# Altium schematic symbol library TMDX654GPEVM.SCHLIB: 339 symbols (part 5 of 6)
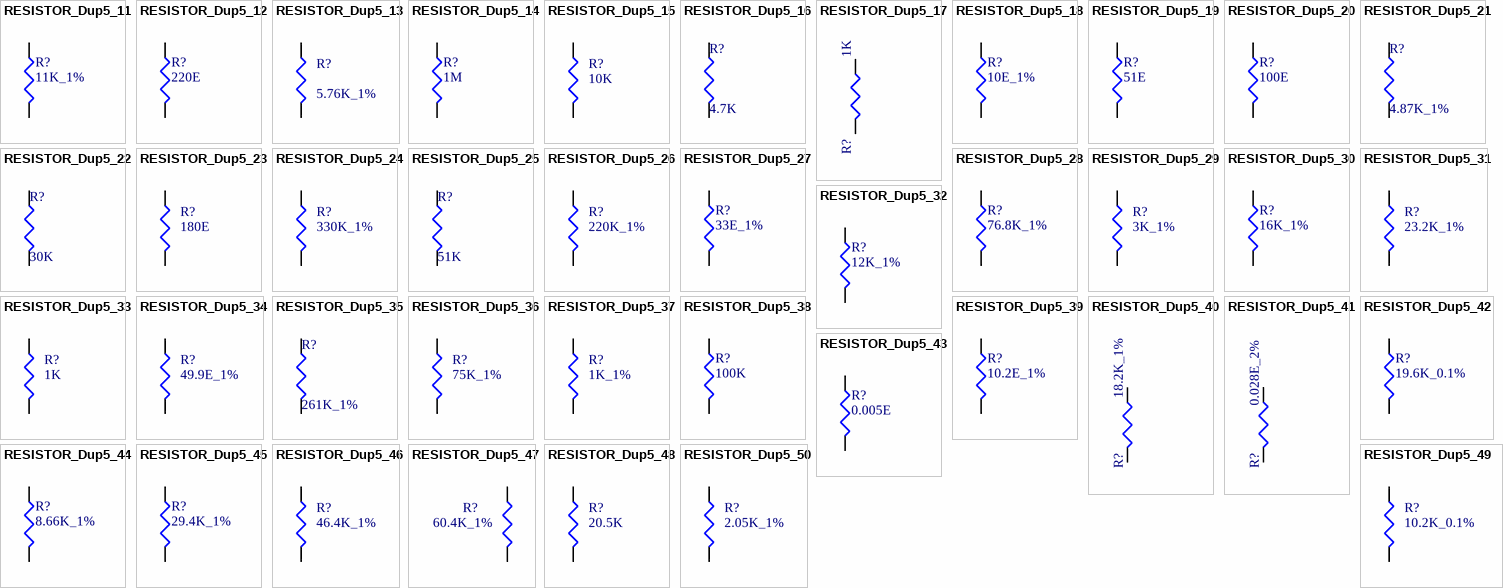
[diagram p24: symbols RESISTOR_Dup5_11 to RESISTOR_Dup5_50]

## RESISTOR_Dup5_36
designator R?, comment 75K_1%
RES 75K 1/10W 1% 0402; Part_type: RESISTORS\FIXED; Mfr_part_number: ERJ-2RKF7502X; Mfr_name: PANASONIC-ECG; Mistral Part No: 110009031116-R; MECHANICAL 3D STEP FILE: RES0402_0-5; Voltage: NA; Custom_Duty: 15%; Customs_HS_Code: 85332119; Project: G4_SVGA; Footprint Path: Y:\MIS_DATABASE\Library\ALTIUM_TOOL\PCB_FOOTPRINTS\Altium_Footprint_Lib.PcbLib; Library Path: Y:\MIS_DATABASE\Library\ALTIUM_TOOL\SCHEMATICS_PARTS\MS_DISCRETE_Library.schlib; Temperature: -55°C+155°C; Weight: 0.8mg; PCB Footprint: RES0402_0-5; Chkd/date: MANIRAJA/040418; Crtd /date: MAZHAR/120505; Datasheet: Y:\MIS_DATABASE\DATASHEETS\RESISTORS\PAN-ERJSERIES.PDF; Height: 0.40MM; Distributor_part_number: P75.0KLCT-ND; Distributor_name: DIGIKEY; Package: 0402; Wattage: 1/10W; Tolerance: 1%; Library Ref: RESISTOR; Footprint Ref: RES0402_0-5
footprint RES0402_0-5
pins: 1, 2

## RESISTOR_Dup5_37
designator R?, comment 1K_1%
RES 1K 1/10W 1% 0402; Mistral Part No: 110009030411-R; Mfr_name: PANASONIC-ECG; Mfr_part_number: ERJ-2RKF1001X; Part_type: RESISTORS\FIXED; Cust_part_number: 4700-80039E; PCB Footprint: RES0402_0-5; Project: VOCERA; Voltage: NA; Customs_HS_Code: 85332119; Custom_Duty: 15%; Tolerance: 1%; Wattage: 1/10W; Package: 0402; Distributor_name: DIGIKEY; Distributor_part_number: P1.00KLCT-ND; Height: 0.40MM; Weight: 0.8g/1000pcs; Temperature: -55°C+125°C; Datasheet: Y:\MIS_DATABASE\DATASHEETS\RESISTORS\ERJ-2R.PDF; Crtd /date: MAZHAR/150506; Chkd/date: VASANTHA/281216; MECHANICAL 3D STEP FILE: RES0402_0-5; Library Path: Y:\MIS_DATABASE\Library\ALTIUM_TOOL\SCHEMATICS_PARTS\MS_DISCRETE_Library.schlib; Footprint Path: Y:\MIS_DATABASE\Library\ALTIUM_TOOL\PCB_FOOTPRINTS\Altium_Footprint_Lib.PcbLib; Library Ref: RESISTOR; Footprint Ref: RES0402_0-5
footprint RES0402_0-5
pins: 1, 2

## RESISTOR_Dup5_38
designator R?, comment 100K
RES 100K 1/16W 5% 0402; Mistral Part No: 110011060002-R; Mfr_name: VISHAY; Mfr_part_number: CRCW0402100KJNED; Part_type: RESISTORS\FIXED; PCB Footprint: RES0402_0-5; Project: AM4515_EVM_LCD; Voltage: NA; Customs_HS_Code: 85332119; Custom_Duty: 15%; Tolerance: 5%; Wattage: 1/16W; Package: 0402; Distributor_name: DIGIKEY; Distributor_part_number: 541-100KJCT-ND; Height: 0.40MM; Weight: 0.65mg; Temperature: -55°C+155°C; Datasheet: Y:\MIS_DATABASE\DATASHEETS\RESISTORS\CRCW0603.PDF; Crtd /date: BAVISH/010611; Chkd/date: VASANTHA/061216; MECHANICAL 3D STEP FILE: RES0402_0-5; Library Ref: RESISTOR
footprint RES0402_0-5
pins: 1, 2

## RESISTOR_Dup5_39
designator R?, comment 10.2E_1%
RES 10.2E 1/16W 1% 0402; Part_type: RESISTORS\FIXED; Mfr_part_number: CRCW040210R2FKED; Mfr_name: VISHAY; Mistral Part No: 110017080001-R; PCB Footprint: RES0402_0-5; Custom_Duty: 15%; Customs_HS_Code: 85332119; Voltage: NA; Project: TI_SVB_DUT; MECHANICAL 3D STEP FILE: RES0402_0-5; Chkd/date: MANIRAJA/030817; Crtd /date: MANIRAJA/030817; Datasheet: Y:\MIS_DATABASE\DATASHEETS\RESISTORS\CRCW0603.PDF; Temperature: -55°C+155°C; Weight: 0.65mg; Height: 0.40MM; Distributor_part_number: 541-10.2LCT-ND; Distributor_name: DIGIKEY; Package: 0402; Wattage: 1/16W; Tolerance: 1%; Library Ref: RESISTOR
footprint RES0402_0-5
pins: 1, 2

## RESISTOR_Dup5_40
designator R?, comment 18.2K_1%
RES 18.2K 1/16W 1% 0402; Mistral Part No: 110009031211-R; Mfr_name: PANASONIC-ECG; Mfr_part_number: ERJ-2RKF1822X; Part_type: RESISTORS\FIXED; PCB Footprint: RES0402; Project: AXON; Customs_HS_Code: 85332119; Custom_Duty: 15%; Tolerance: 1%; Wattage: 1/16W; Package: 0402; Distributor_name: DIGIKEY; Distributor_part_number: P18.2KLCT-ND; Height: 0.40MM; Datasheet: Y:\MIS_DATABASE\DATASHEETS\RESISTORS\PAN-ERJSERIES.PDF; Crtd /date: USMAN/130309; Chkd/date: MAZHAR/150709; Library Ref: RESISTOR
footprint RES0402
pins: 1, 2

## RESISTOR_Dup5_41
designator R?, comment 0.028E_2%
RES 0.028E 1W 2% 1508; Mistral Part No: 110017090012-R; Mfr_name: SUSUMU; Mfr_part_number: RL3720WT-R028-G; Part_type: RESISTORS\FIXED; PCB Footprint: RES0815_0-75; Project: TI_MAXIE_CPB; Voltage: NA; Customs_HS_Code: 85332119; Custom_Duty: 15%; Tolerance: 2%; Wattage: 1W; Package: 1508; Distributor_name: DIGIKEY; Distributor_part_number: 408-1717-1-ND; Height: 0.70MM; Weight: NA; Temperature: -55°C+125°C; Datasheet: Y:\MIS_DATABASE\DATASHEETS\RESISTORS\RL3720W-SER.PDF; Crtd /date: MANIRAJA/280917; Chkd/date: MANIRAJA/280917; MECHANICAL 3D STEP FILE: RES0815_0-75; Library Ref: RESISTOR
footprint RES0815_0-75
pins: 1, 2

## RESISTOR_Dup5_42
designator R?, comment 19.6K_0.1%
RES 19.6K 1/16W 0.1% 0402; Mistral Part No: 110011100020-R; Mfr_name: VISHAY; Mfr_part_number: TNPW040219K6BEED; Part_type: RESISTORS\FIXED; PCB Footprint: RES0402; Project: VP-4000-PROCESSOR; Voltage: NA; Customs_HS_Code: 85332119; Custom_Duty: 15%; Tolerance: 0.1%; Wattage: 1/16W; Package: 0402; Distributor_name: DIGIKEY; Distributor_part_number: TNP19.6KDACT-ND; Height: 0.40MM; Weight: 0.65/1000g; Temperature: -55°C+125°C; Datasheet: Y:\MIS_DATABASE\DATASHEETS\RESISTORS\VISHAY_TNPW.PDF; Crtd /date: CHAITHANYA/121011; Chkd/date: BAVISH/131011; Library Ref: RESISTOR
footprint RES0402
pins: 1, 2

## RESISTOR_Dup5_43
designator R?, comment 0.005E
RES 0.005E 1/2W 1% 1206; Mistral Part No: 110009030043-P; Mfr_name: VISHAY; Mfr_part_number: WSL12065L000FEA18; Part_type: RESISTORS\FIXED; PCB Footprint: RES1206; Project: MDI; Customs_HS_Code: 85332119; Custom_Duty: 15%; Tolerance: 1%; Wattage: 1/2W; Package: 1206; Distributor_name: DIGIKEY; Distributor_part_number: WSLD-.005CT-ND; Height: 0.89MM; Weight: 16.2g/1000pcs; Temperature: -65°C+170°C; Datasheet: Y:\MIS_DATABASE\DATASHEETS\RESISTORS\WSL-SERIES.PDF; Crtd /date: USMAN/190908; Chkd/date: SUHAS/290910; RoHS: Pb-Free; Library Ref: RESISTOR
footprint RES1206
pins: 1, 2

## RESISTOR_Dup5_44
designator R?, comment 8.66K_1%
RES 8.66K 1/10W 1% 0402; Mistral Part No: 110012090010-R; Mfr_name: PANASONIC; Mfr_part_number: ERJ-2RKF8661X; Part_type: RESISTORS\FIXED; PCB Footprint: RES0402; Project: ICP; Voltage: NA; Customs_HS_Code: 85332119; Custom_Duty: 15%; Tolerance: 1%; Wattage: 1/10W; Package: 0402; Distributor_name: DIGIKEY; Distributor_part_number: P8.66KLCT-ND; Height: 0.40MM; Weight: 0.8/1000g; Temperature: -55°C+155°C; Datasheet: Y:\MIS_DATABASE\DATASHEETS\RESISTORS\ERJ-2R.PDF; Crtd /date: CHAITHANYA/260912; Chkd/date: JEBRAN/260315; Library Ref: RESISTOR
footprint RES0402
pins: 1, 2

## RESISTOR_Dup5_45
designator R?, comment 29.4K_1%
RES 29.4K 1/16W 1% 0402; Part_type: RESISTORS\FIXED; Mfr_part_number: ERJ-2RKF2942X; Mfr_name: PANASONIC-ECG; Mistral Part No: 110009030592-R; PCB Footprint: RES0402; Custom_Duty: 15%; Customs_HS_Code: 85332119; Project: CTP02_REVA_BASE; Chkd/date: SHREESHAIL/121205; Crtd /date: MAZHAR/120505; Datasheet: Y:\MIS_DATABASE\DATASHEETS\RESISTORS\PAN_ERJ.PDF; Height: 0.40MM; Distributor_part_number: P29.4KLTR-ND; Distributor_name: DIGIKEY; Package: 0402; Wattage: 1/16W; Tolerance: 1%; Library Ref: RESISTOR
footprint RES0402
pins: 1, 2

## RESISTOR_Dup5_46
designator R?, comment 46.4K_1%
RES 46.4K 1/16W 1% 0402; Part_type: RESISTORS\FIXED; Mfr_part_number: CRCW040246K4FKED; Mfr_name: VISHAY; Mistral Part No: 110013020001-R; PCB Footprint: RES0402; Custom_Duty: 15%; Customs_HS_Code: 85332119; Voltage: NA; Project: ITS-SCP; Chkd/date: USMAN/230413; Crtd /date: USMAN/180213; Datasheet: Y:\MIS_DATABASE\DATASHEETS\RESISTORS\CRCW0603.PDF; Temperature: -55°C+155°C; Weight: 0.65mg; Height: 0.40MM; Distributor_part_number: 541-46.4KLCT-ND; Distributor_name: DIGIKEY; Package: 0402; Wattage: 1/16W; Tolerance: 1%; Library Ref: RESISTOR; Footprint Ref: RES0402; Library Path: Y:\MIS_DATABASE\Library\ALTIUM_TOOL\SCHEMATICS_PARTS\MS_DISCRETE_Library.schlib; Footprint Path: Y:\MIS_DATABASE\Library\ALTIUM_TOOL\PCB_FOOTPRINTS\Altium_Footprint_Lib.PcbLib
footprint RES0402
pins: 1, 2

## RESISTOR_Dup5_47
designator R?, comment 60.4K_1%
RES 60.4K 1/16W 1% 0402; Mistral Part No: 110012110012-R; Mfr_name: YAGEO AMERICA; Mfr_part_number: RC0402FR-0760K4L; Part_type: RESISTORS\FIXED; Cust_part_number: 4700-80042E; Project: ITS-CONTROLER_CARD; Voltage: NA; Customs_HS_Code: 85332119; Custom_Duty: 15%; MECHANICAL 3D STEP FILE: RES0402_0-5; Tolerance: 1%; Wattage: 1/16W; Package: 0402; Distributor_name: DIGIKEY; Distributor_part_number: 311-60.4KLRCT-ND; Height: 0.40MM; Weight: 0.65mg; Temperature: -55°C+155°C; Datasheet: Y:\MIS_DATABASE\DATASHEETS\RESISTORS\YAGEO-RC0402.PDF; Crtd /date: USMAN/201112; Chkd/date: VASANTHA/281216; PCB Footprint: RES0402_0-5; Library Ref: RESISTOR
footprint RES0402_0-5
pins: 1, 2

## RESISTOR_Dup5_48
designator R?, comment 20.5K
RES 20.5K 1/10W 1% 0402; Mistral Part No: 110010090063-R; Mfr_name: PANASONIC-ECG; Mfr_part_number: ERJ-2RKF2052X; Part_type: RESISTORS\FIXED; Project: ITS; Customs_HS_Code: 85332119; Custom_Duty: 15%; PCB Footprint: RES0402; Tolerance: 1%; Wattage: 1/10W; Package: 0402; Distributor_name: DIGIKEY; Distributor_part_number: P20.5KLCT-ND; Height: 0.40MM; Weight: 0.8/1000g; Temperature: -55°C+125°C; Datasheet: Y:\MIS_DATABASE\DATASHEETS\RESISTORS\ERJ2R.PDF; Crtd /date: BAVISH/290910; Chkd/date: MAZHAR/0141010; Library Ref: RESISTOR; Footprint Ref: RES0402; Library Path: Y:\MIS_DATABASE\Library\ALTIUM_TOOL\SCHEMATICS_PARTS\MS_DISCRETE_Library.schlib; Footprint Path: Y:\MIS_DATABASE\Library\ALTIUM_TOOL\PCB_FOOTPRINTS\Altium_Footprint_Lib.PcbLib
footprint RES0402
pins: 1, 2

## RESISTOR_Dup5_49
designator R?, comment 10.2K_0.1%
RES 10.2K 1/16W 0.1% 0402; Mistral Part No: 110011050017-R; Mfr_name: VISHAY; Mfr_part_number: TNPW040210K2BEED; Part_type: RESISTORS\FIXED; Project: HMC; Voltage: NA; Customs_HS_Code: 85332119; Custom_Duty: 15%; PCB Footprint: RES0402; Tolerance: 0.1%; Wattage: 1/16W; Package: 0402; Distributor_name: DIGIKEY; Distributor_part_number: TNP10.2KDACT-ND; Height: 0.40MM; Weight: 0.65/1000g; Temperature: -55°C+125°C; Datasheet: Y:\MIS_DATABASE\DATASHEETS\RESISTORS\VISHAY_TNPW.PDF; Crtd /date: BAVISH/240511; Chkd/date: MAZHAR/200611; Library Ref: RESISTOR
footprint RES0402
pins: 1, 2

## RESISTOR_Dup5_50
designator R?, comment 2.05K_1%
RES 2.05K 1/10W 1% 0402; Part_type: RESISTORS\FIXED; Mfr_part_number: ERJ-2RKF2051X; Mfr_name: PANASONIC; Mistral Part No: 110014110019-R; Custom_Duty: 15%; Customs_HS_Code: 85332119; Voltage: NA; Project: ZK BIOMETRIC; PCB Footprint: RES0402; Library Ref: RESISTOR; Chkd/date: NAVEED/261214; Crtd /date: JEBRAN/271114; Datasheet: Y:\MIS_DATABASE\DATASHEETS\RESISTORS\ERJ-2R.PDF; Temperature: -55°C+125°C; Weight: NA; Height: 0.40MM; Distributor_part_number: P2.05KLCT-ND; Distributor_name: DIGIKEY; Package: 0402; Wattage: 1/10W; Tolerance: 1%
footprint RES0402
pins: 1, 2

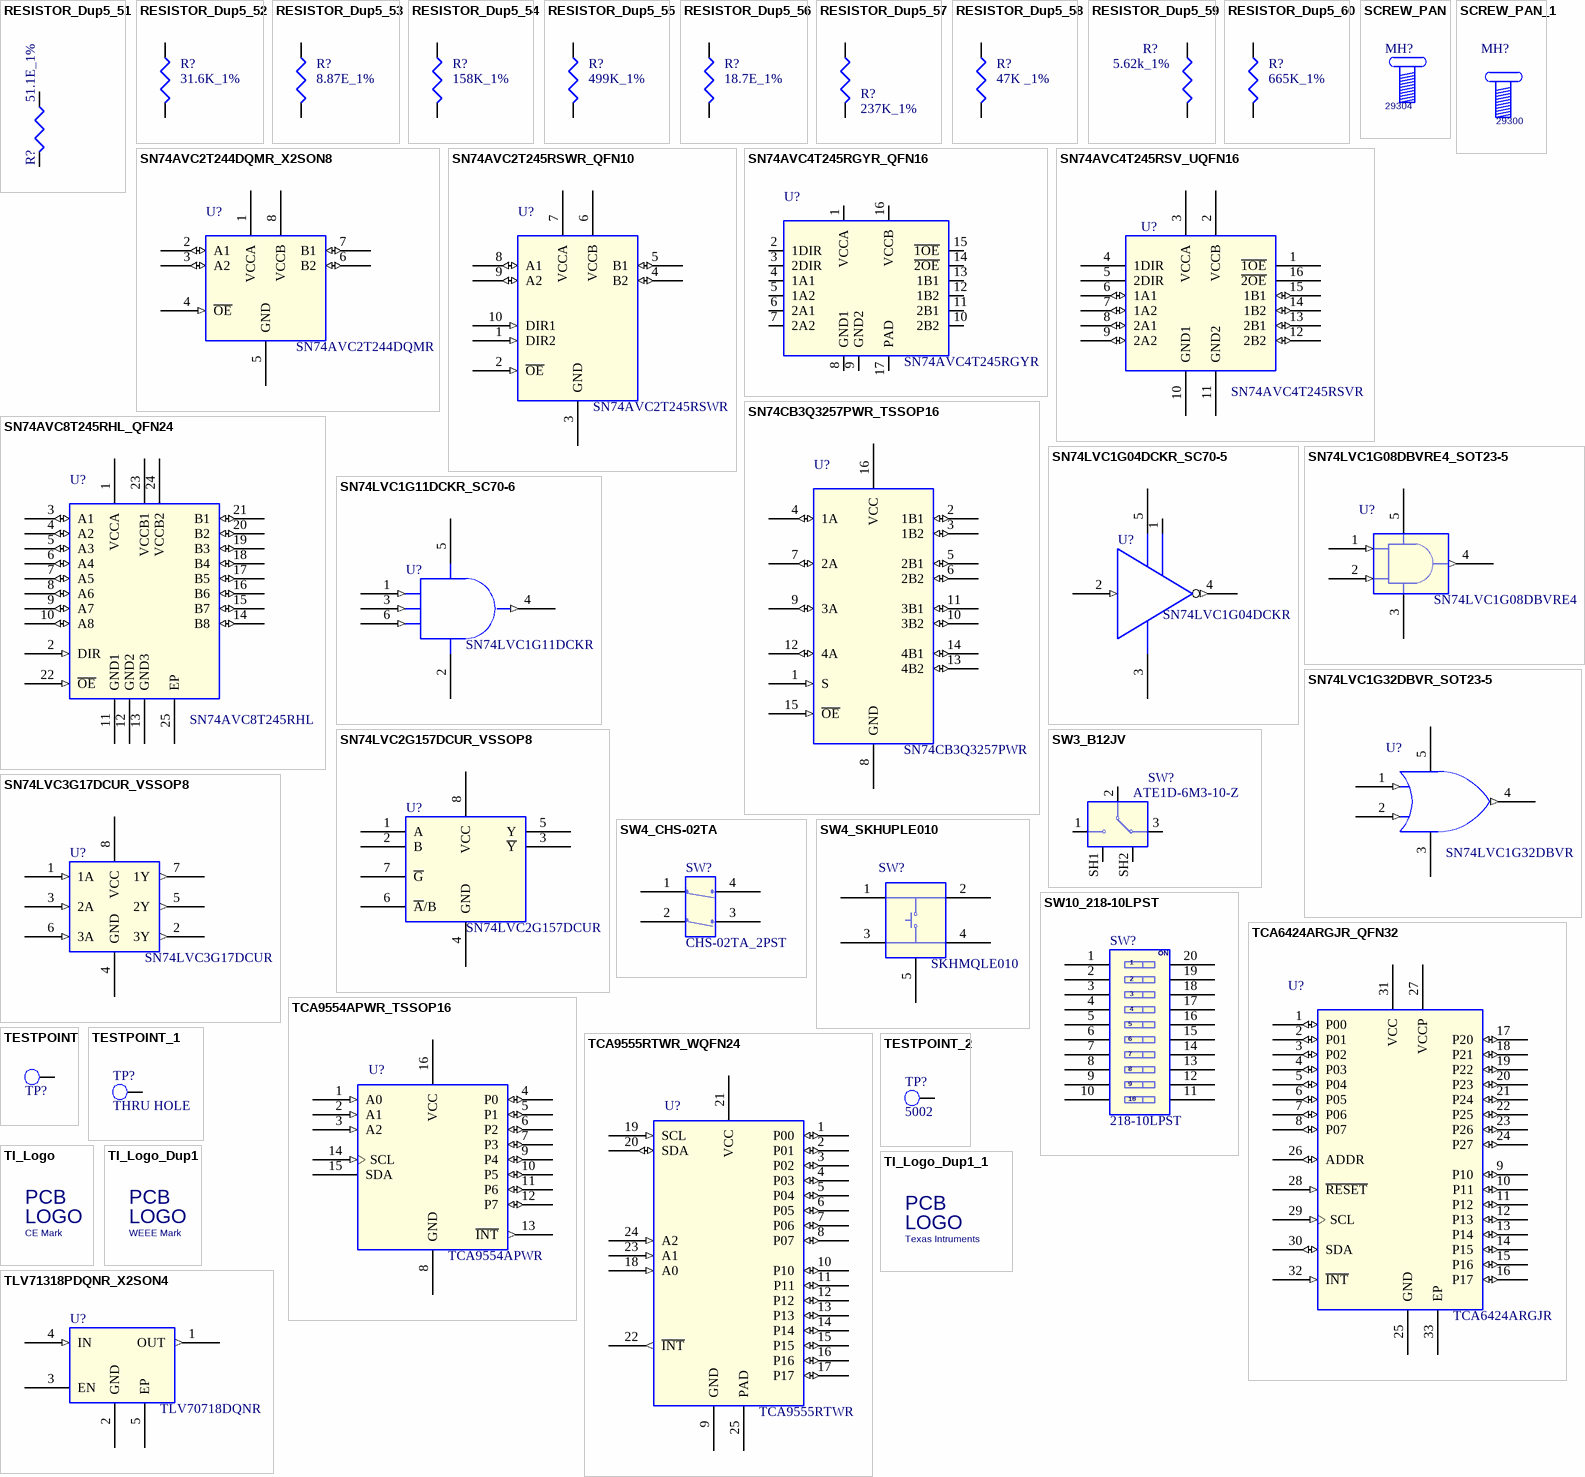
[diagram p18: symbols RESISTOR_Dup5_51 to TLV71318PDQNR_X2SON4]

## RESISTOR_Dup5_51
designator R?, comment 51.1E_1%
RES 51.1E 1/16W 1% 0402; Mistral Part No: 110017060001-R; Mfr_name: YAGEO AMERICA; Mfr_part_number: RC0402FR-0751R1L; Part_type: RESISTORS\FIXED; Project: TI_SVB_CONTROLLER CARD; Voltage: NA; Customs_HS_Code: 85332119; Custom_Duty: 15%; MECHANICAL 3D STEP FILE: RES0402_0-5; Library Ref: RESISTOR; Tolerance: 1%; Wattage: 1/16W; Package: 0402; Distributor_name: DIGIKEY; Distributor_part_number: 311-51.1LRCT-ND; Height: 0.40MM; Weight: 0.65mg; Temperature: -55°C+155°C; Datasheet: Y:\MIS_DATABASE\DATASHEETS\RESISTORS\YAGEO-RC0402.PDF; Crtd /date: MANIRAJA/280617; Chkd/date: MANIRAJA/280617; PCB Footprint: RES0402_0-5
footprint RES0402_0-5
pins: 1, 2

## RESISTOR_Dup5_52
designator R?, comment 31.6K_1%
RES 31.6K 1/10W 1% 0402; Mistral Part No: 110009030679-R; Mfr_name: PANASONIC-ECG; Mfr_part_number: ERJ-2RKF3162X; Part_type: RESISTORS\FIXED; PCB Footprint: RES0402; Project: VOCERA; Customs_HS_Code: 85332119; Custom_Duty: 15%; Footprint Path: Y:\MIS_DATABASE\Library\ALTIUM_TOOL\PCB_FOOTPRINTS\Altium_Footprint_Lib.PcbLib; Library Path: Y:\MIS_DATABASE\Library\ALTIUM_TOOL\SCHEMATICS_PARTS\MS_DISCRETE_Library.schlib; Footprint Ref: RES0402; Library Ref: RESISTOR; Tolerance: 1%; Wattage: 1/10W; Package: 0402; Distributor_name: DIGIKEY; Distributor_part_number: P31.6KLCT-ND; Height: 0.40MM; Datasheet: Y:\MIS_DATABASE\DATASHEETS\RESISTORS\PAN_ERJ.PDF; Crtd /date: SHREESHAIL/070606; Chkd/date: SHREESHAIL/070606
footprint RES0402
pins: 1, 2

## RESISTOR_Dup5_53
designator R?, comment 8.87E_1%
RES 8.87E 1/16W 1% 0402; Mistral Part No: 110014010002-R; Mfr_name: VISHAY; Mfr_part_number: CRCW04028R87FKED; Part_type: RESISTORS\FIXED; Project: ITS2_CC; Voltage: NA; Customs_HS_Code: 85332119; Custom_Duty: 15%; PCB Footprint: RES0402; Library Ref: RESISTOR; Tolerance: 1%; Wattage: 1/16W; Package: 0402; Distributor_name: DIGIKEY; Distributor_part_number: 541-8.87LLCT-ND; Height: 0.40MM; Weight: 0.65mg; Temperature: -55°C+155°C; Datasheet: Y:\MIS_DATABASE\DATASHEETS\RESISTORS\CRCW0603.PDF; Crtd /date: JAGADISH/090114; Chkd/date: USMAN/100114
footprint RES0402
pins: 1, 2

## RESISTOR_Dup5_54
designator R?, comment 158K_1%
RES 158K 1/16W 1% 0402; Part_type: RESISTORS\FIXED; Mfr_part_number: RC0402FR-07158KL; Mfr_name: YAGEO AMERICA; Mistral Part No: 110017100001-R; Custom_Duty: 15%; Customs_HS_Code: 85332119; Voltage: NA; Project: TI_MAXIE_CPB; MECHANICAL 3D STEP FILE: RES0402_0-5; Library Ref: RESISTOR; Chkd/date: MANIRAJA/031017; Crtd /date: MANIRAJA/031017; Datasheet: Y:\MIS_DATABASE\DATASHEETS\RESISTORS\YAGEO-RC0402.PDF; Temperature: -55°C+155°C; Weight: 0.65mg; Height: 0.40MM; Distributor_part_number: YAG2990CT-ND; Distributor_name: DIGIKEY; Package: 0402; Wattage: 1/16W; Tolerance: 1%; PCB Footprint: RES0402_0-5
footprint RES0402_0-5
pins: 1, 2

## RESISTOR_Dup5_55
designator R?, comment 499K_1%
RES 499K 1/16W 1% 0402; Mistral Part No: 110009090015-P; Mfr_name: YAGEO AMERICA; Mfr_part_number: RC0402FR-07499KL; Part_type: RESISTORS\FIXED; PCB Footprint: RES0402; Project: GOLDEN-I; Voltage: 50V; Customs_HS_Code: 85332119; Custom_Duty: 15%; Library Ref: RESISTOR; Tolerance: 1%; Wattage: 1/16W; Package: 0402; Distributor_name: DIGIKEY; Distributor_part_number: 311-499KLRCT-ND; Height: 0.40MM; Weight: 0.8g/1000pcs; Temperature: -55°C+155°C; Datasheet: Y:\MIS_DATABASE\DATASHEETS\RESISTORS\YAGEO-RC0402.PDF; Crtd /date: MAZHAR/240909; Chkd/date: SUHAS/290910; RoHS: Pb-Free
footprint RES0402
pins: 1, 2

## RESISTOR_Dup5_56
designator R?, comment 18.7E_1%
RES 18.7E 1/16W 1% 0402; Mistral Part No: 110010090023-P; Mfr_name: VISHAY; Mfr_part_number: CRCW040218R7FKED; Part_type: RESISTORS\FIXED; Project: ITS; Voltage: 50V; Customs_HS_Code: 85332119; Custom_Duty: 15%; PCB Footprint: RES0402; Library Ref: RESISTOR; Tolerance: 1%; Wattage: 1/16W; Package: 0402; Distributor_name: DIGIKEY; Distributor_part_number: 541-18.7LCT-ND; Height: 0.40MM; Weight: 0.65g/1000pcs; Temperature: -55°C+125°C; Datasheet: Y:\MIS_DATABASE\DATASHEETS\RESISTORS\CRCW0603.PDF; Crtd /date: MUDDU/080910; Chkd/date: SUHAS/230910; RoHS: Pb-Free
footprint RES0402
pins: 1, 2

## RESISTOR_Dup5_57
designator R?, comment 237K_1%
RES 237K 1/16W 1% 0402; Mistral Part No: 110015080038-R; Mfr_name: STACKPOLE ELECTRONICS; Mfr_part_number: RMCF0402FT237K; Part_type: RESISTORS\FIXED; Project: OCTBTS3600; Voltage: NA; PCB Footprint: RES0402; Library Ref: RESISTOR; Tolerance: 1%; Wattage: 1/16W; Package: 0402; Distributor_name: DIGIKEY; Distributor_part_number: RMCF0402FT237KCT-ND; Height: 0.40MM; Weight: NA; Temperature: -55°C+155°C; Datasheet: Y:\MIS_DATABASE\DATASHEETS\RESISTORS\RMCF-SERIES1.PDF; Crtd /date: JEBRAN/250815; Chkd/date: JEBRAN/250815
footprint RES0402
pins: 1, 2

## RESISTOR_Dup5_58
designator R?, comment 47K _1%
RES 47K 1/16W 1% 0402; Mistral Part No: 110009030884-R; Mfr_name: YAGEO AMERICA; Mfr_part_number: RC0402FR-0747KL; Part_type: RESISTORS\FIXED; MECHANICAL 3D STEP FILE: RES0402_0-5; Voltage: NA; Project: ADR1B; Customs_HS_Code: 85332119; Custom_Duty: 15%; Library Ref: RESISTOR; Temperature: -55°C+155°C; Weight: 0.65mg; Tolerance: 1%; Wattage: 1/16W; Package: 0402; Distributor_name: DIGIKEY; Distributor_part_number: 311-47.0KLRCT-ND; Height: 0.40MM; Datasheet: Y:\MIS_DATABASE\DATASHEETS\RESISTORS\YAGEO-RC0402.PDF; Crtd /date: MAZHAR/141206; Chkd/date: VASANTHA/060117; PCB Footprint: RES0402_0-5
footprint RES0402_0-5
pins: 1, 2

## RESISTOR_Dup5_59
designator R?, comment 5.62k_1%
RES 5.62K 1/10W 1% 0603; Part_type: RESISTORS\FIXED; Mfr_part_number: CRCW06035K62FKEA; Mfr_name: VISHAY; Mistral Part No: 110013110005-R; Custom_Duty: 15%; Customs_HS_Code: 85332119; Voltage: NA; Project: NPOL_FEP; PCB Footprint: RES0603; Library Ref: RESISTOR; Chkd/date: USMAN/141113; Crtd /date: USMAN/141113; Datasheet: Y:\MIS_DATABASE\DATASHEETS\RESISTORS\CRCW0603.PDF; Temperature: -55°C+155°C; Weight: NA; Height: 0.50MM; Distributor_part_number: 541-5.62KHCT-ND; Distributor_name: DIGIKEY; Package: 0603; Wattage: 1/10W; Tolerance: 1%
footprint RES0603
pins: 1, 2

## RESISTOR_Dup5_60
designator R?, comment 665K_1%
RES 665K 1/10W 1% 0603; Mistral Part No: 110017060002-R; Mfr_name: VISHAY; Mfr_part_number: CRCW0603665KFKEA; Part_type: RESISTORS\FIXED; Project: TI_SVB_CONTROLLER CARD; Voltage: NA; Customs_HS_Code: 85332119; Custom_Duty: 15%; MECHANICAL 3D STEP FILE: RES0603_0-5; Library Ref: RESISTOR; Tolerance: 1%; Wattage: 1/10W; Package: 0603; Distributor_name: DIGIKEY; Distributor_part_number: 541-665KHCT-ND; Height: 0.50MM; Weight: 2mg; Temperature: -55°C+155°C; Datasheet: Y:\MIS_DATABASE\DATASHEETS\RESISTORS\CRCW0603.PDF; Crtd /date: MANIRAJA/280617; Chkd/date: MANIRAJA/280617; PCB Footprint: RES0603_0-5
footprint RES0603_0-5
pins: 1, 2

## SCREW_PAN
designator MH?, comment Mfr_part_number: 29304  (hidden comment: PAN HEAD_M2.5 X 12)
PHILLIPS PAN HEAD SCREW - M2.5 X 12; Mistral Part No: 160018070043-R; Mfr_name: KEYSTONE; Part_type: ACCESSORIES; Project: TI_MAXIE_CPB; Tolerance: NA; Footprint Ref: NA; Voltage: NA; Wattage: NA; Package: NA; Distributor_name: DIGIKEY; Distributor_part_number: 36-29304-ND; Library Ref: SCREW_PAN; Height: 12.00MM; Weight: NA; Temperature: NA; Datasheet: Y:\MIS_DATABASE\DATASHEETS\MISC\MECHANICAL\29304.PDF; Crtd /date: MANIRAJA/110718; Chkd/date: MANIRAJA/110718; Customs_HS_Code: NA; Custom_Duty: NA; MECHANICAL 3D STEP FILE: NA; Library Path: NA; Footprint Path: NA; PCB Footprint: NA
footprint NA

## SCREW_PAN_1
designator MH?, comment Mfr_part_number: 29300  (hidden comment: PAN HEAD_M2.5 X 4)
PHILLIPS PAN HEAD SCREW - M2.5 X 4 SS-316; Mistral Part No: 160018020076-R; Mfr_name: KEYSTONE; Part_type: MECHANICAL\SCREWS; Project: TI_MAXIE_CPB; Tolerance: NA; Voltage: NA; Wattage: NA; Package: SS; Distributor_name: DIGIKEY; Distributor_part_number: 36-29300-ND; Library Ref: SCREW_PAN; Footprint Ref: NA; Height: 4.00MM; Weight: NA; Temperature: NA; Datasheet: Y:\MIS_DATABASE\DATASHEETS\MISC\MECHANICAL\29300.PDF; Crtd /date: MANIRAJA/190218; Chkd/date: MANIRAJA/190218; MECHANICAL 3D STEP FILE: NA; Library Path: Y:\MIS_DATABASE\Library\ALTIUM_TOOL\SCHEMATICS_PARTS\MS_MECHANICAL_Library.schlib; Footprint Path: Y:\MIS_DATABASE\Library\ALTIUM_TOOL\PCB_FOOTPRINTS\Altium_Footprint_Lib.PcbLib; PCB Footprint: NA
footprint NA

## SN74AVC2T244DQMR_X2SON8
designator U?, comment SN74AVC2T244DQMR
IC 2-BIT UNDIRECTIONAL VOLTAGE-LEVEL TRANSLATOR X2SON8; Mistral Part No: 141016030002-R; Mfr_name: TEXAS INSTRUMENTS; Part_type: ICS\INTERFACE\LEVEL TRANSLATOR; PCB Footprint: X2SON8_15-74_70X50; Project: OCTASIC_3600; Tolerance: NA; Pb-Free: 85423100; Customs_HS_Code: 15%; Library Ref: SN74AVC2T244DQMR_X2SON8; Mfr_part_number: SN74AVC2T244DQMR; Voltage: NA; Wattage: NA; Package: X2SON8; Distributor_name: DIGIKEY; Distributor_part_number: 296-29674-1-ND; Height: 0.40MM; Weight: NA; Temperature: -40°C+85°C; Datasheet: Y:\MIS_DATABASE\DATASHEETS\ICS\INTERFACE\SN74AVC2T244.PDF; Crtd /date: VASANTHA/030316; Chkd/date: VASANTHA/060516
footprint X2SON8_15-74_70X50
pins: 1 VCCA (power), 2 A1 (io), 3 A2 (io), 4 ~{OE} (in), 5 GND (power), 6 B2 (io), 7 B1 (io), 8 VCCB (power)

## SN74AVC2T245RSWR_QFN10
designator U?, comment SN74AVC2T245RSWR
IC DUAL-BIT DUAL SUPPLY BUS TRANSCEIVER QFN10; Mistral Part No: 143009030061-R; Mfr_name: TEXAS INSTRUMENTS; Part_type: ICS\TELECOM\TRANSCEIVER; Project: AXON; Customs_HS_Code: 85423100; Custom_Duty: 15%; PCB Footprint: QFN10_15-74_75X60; Mfr_part_number: SN74AVC2T245RSWR; Package: QFN10; Distributor_name: DIGIKEY; Distributor_part_number: 296-23684-1-ND; Height: 0.55MM; Temperature: -40°C+85°C; Datasheet: Y:\MIS_DATABASE\DATASHEETS\ICS\DIGITAL\BUSTRANSCEIVER\SN74AVC2T245RSWR.PDF; Crtd /date: USMAN/130309; Chkd/date: SUHAS/031110; RoHS: Sb/ Br FREE; Library Ref: SN74AVC2T245RSWR_QFN10
footprint QFN10_15-74_75X60
pins: 1 DIR2 (in), 2 ~{OE} (in), 3 GND (power), 4 B2 (io), 5 B1 (io), 6 VCCB (power), 7 VCCA (power), 8 A1 (io), 9 A2 (io), 10 DIR1 (in)

## SN74AVC4T245RGYR_QFN16
designator U?, comment SN74AVC4T245RGYR
IC 4-BIT DUAL SUPPLY BUS TRANSCEIVER QFN16; Mistral Part No: 141009030112-R; Mfr_name: TEXAS INSTRUMENTS; Part_type: ICS\DIGITAL\COMBINATIONAL; Project: HS100RD; Customs_HS_Code: 85423100; Custom_Duty: 15%; PCB Footprint: QFN16_19-68_160X140; Library Ref: SN74AVC4T245RGYR_QFN16; Mfr_part_number: SN74AVC4T245RGYR; Package: QFN16; Distributor_name: DIGIKEY; Distributor_part_number: 296-18231-1-ND; Height: 1.00MM; Datasheet: Y:\MIS_DATABASE\DATASHEETS\ICS\DIGITAL\BUSTRANSCEIVER\SN74AVC4T245XXXX.PDF; Crtd /date: USMAN/060308; Chkd/date: MAZHAR/060308; RoHS: Sb/ Br FREE
footprint QFN16_19-68_160X140
pins: 1 VCCA (power), 2 1DIR, 3 2DIR, 4 1A1 (io), 5 1A2 (io), 6 2A1 (io), 7 2A2 (io), 8 GND1 (power), 9 GND2 (power), 10 2B2 (io), 11 2B1 (io), 12 1B2 (io), 13 1B1 (io), 14 ~{2OE}, 15 ~{1OE}, 16 VCCB (power), 17 PAD (power)

## SN74AVC4T245RSV_UQFN16
designator U?, comment SN74AVC4T245RSVR
IC BUS TRANSCEIVER 4-BIT DUAL SUPPLY QFN16; Mistral Part No: 141011040011-R; Mfr_name: TEXAS INSTRUMENTS; Part_type: ICS\DIGITAL\BUSTRANSCEIVER; PCB Footprint: UQFN16_15-74_105X75_0-6; Project: HMC; Tolerance: NA; Customs_HS_Code: 85423100; Custom_Duty: 15%; Library Ref: SN74AVC4T245RSV_UQFN16; Mfr_part_number: SN74AVC4T245RSVR; Voltage: NA; Wattage: NA; Package: QFN16; Distributor_name: DIGIKEY; Distributor_part_number: 296-24366-1-ND; Height: 0.55MM; Weight: NA; Temperature: -40°C+85°C; Datasheet: Y:\MIS_DATABASE\DATASHEETS\ICS\DIGITAL\BUSTRANSCEIVER\SN74AVC4T245XXXX.PDF; Crtd /date: BAVISH/190411; Chkd/date: VASANTHA/221216; MECHANICAL 3D STEP FILE: UQFN16_15-74_105X75_0-6
footprint UQFN16_15-74_105X75_0-6
pins: 1 ~{1OE}, 2 VCCB (power), 3 VCCA (power), 4 1DIR, 5 2DIR, 6 1A1 (io), 7 1A2 (io), 8 2A1 (io), 9 2A2 (io), 10 GND1 (power), 11 GND2 (power), 12 2B2 (io), 13 2B1 (io), 14 1B2 (io), 15 1B1 (io), 16 ~{2OE}

## SN74AVC8T245RHL_QFN24
designator U?, comment SN74AVC8T245RHL
IC BUS TRANSCEIVER 8-BIT DUAL-SUPPLY QFN24; Mistral Part No: 143011040001-R; Mfr_name: TEXAS INSTRUMENTS; Mfr_part_number: SN74AVC8T245RHLR; Part_type: ICS\TELECOM\TRANSCEIVER; Project: OMAPL1_PEC20; Tolerance: NA; Customs_HS_Code: 85423100; Custom_Duty: 15%; MECHANICAL 3D STEP FILE: QFN24_19-68_220X140_1; Library Ref: SN74AVC8T245RHL_QFN24; Voltage: NA; Wattage: NA; Package: QFN24; Distributor_name: DIGIKEY; Distributor_part_number: 296-17859-1-ND; Height: 1.00MM; Weight: NA; Temperature: -40°C+85°C; Datasheet: Y:\MIS_DATABASE\DATASHEETS\ICS\DIGITAL\BUSTRANSCEIVER\SN74AVC8T245.PDF; Crtd /date: BAVISH/290411; Chkd/date: VASANTHA/231216; PCB Footprint: QFN24_19-68_220X140_1
footprint QFN24_19-68_220X140_1
pins: 1 VCCA (power), 2 DIR (in), 3 A1 (io), 4 A2 (io), 5 A3 (io), 6 A4 (io), 7 A5 (io), 8 A6 (io), 9 A7 (io), 10 A8 (io), 11 GND1 (power), 12 GND2 (power), 13 GND3 (power), 14 B8 (io), 15 B7 (io), 16 B6 (io), 17 B5 (io), 18 B4 (io), 19 B3 (io), 20 B2 (io), 21 B1 (io), 22 ~{OE} (in), 23 VCCB1 (power), 24 VCCB2 (power), 25 EP (power)

## SN74CB3Q3257PWR_TSSOP16
designator U?, comment SN74CB3Q3257PWR
IC 4BIT 1-OF-2 FET MULTIPLEXER/DEMULTIPLEXER TSSOP16; Mistral Part No: 141009030117-R; Mfr_name: TEXAS INSTRUMENTS; Part_type: ICS\DIGITAL\COMBINATIONAL; Project: OMAP_EVM; Customs_HS_Code: 85423100; Custom_Duty: 15%; PCB Footprint: TSSOP16_25-59_205X180; Library Ref: SN74CB3Q3257PWR_TSSOP16; Mfr_part_number: SN74CB3Q3257PWR; Package: TSSOP16; Distributor_name: DIGIKEY; Distributor_part_number: 296-19138-1-ND; Height: 1.20MM; Temperature: -40°C+85°C; Datasheet: Y:\MIS_DATABASE\DATASHEETS\ICS\DIGITAL\COMBINATIONAL\SN74CB3Q3257.PDF; Crtd /date: USMAN/060109; Chkd/date: SUHAS/251010; RoHS: Sb/ Br FREE
footprint TSSOP16_25-59_205X180
pins: 1 S (in), 2 1B1 (io), 3 1B2 (io), 4 1A (io), 5 2B1 (io), 6 2B2 (io), 7 2A (io), 8 GND (power), 9 3A (io), 10 3B2 (io), 11 3B1 (io), 12 4A (io), 13 4B2 (io), 14 4B1 (io), 15 ~{OE} (in), 16 VCC (power)

## SN74LVC1G04DCKR_SC70-5
designator U?, comment SN74LVC1G04DCKR
IC SINGLE INVERTER GATE SC70-5; Mistral Part No: 141009070007-R; Mfr_name: TEXAS INSTRUMENTS; Part_type: ICS\DIGITAL\GATES; Project: BUG_BASE-II; Customs_HS_Code: 85423100; Custom_Duty: 15%; Library Ref: SN74LVC1G04DCKR_SC70-5; PCB Footprint: SC70-5; Mfr_part_number: SN74LVC1G04DCKR; Package: SC70-5; Distributor_name: DIGIKEY; Distributor_part_number: 296-11600-1-ND; Height: 1.10MM; Temperature: -40°C+85°C; Datasheet: Y:\MIS_DATABASE\DATASHEETS\ICS\DIGITAL\GATES\SN74LVC1G04-1.PDF; Crtd /date: USMAN/150709; Chkd/date: SUHAS/221010; RoHS: Sb/ Br FREE
footprint SC70-5
pins: 1 NC, 2 A (in), 3 GND (power), 4 Y (out), 5 VCC (power)

## SN74LVC1G08DBVRE4_SOT23-5
designator U?, comment SN74LVC1G08DBVRE4
IC SINGLE 2-INPUT POSITIVE AND GATE SOT23-5; Part_type: ICS\DIGITAL\GATES; Mfr_name: TEXAS INSTRUMENTS; Mistral Part No: 141009060026-R; Custom_Duty: 15%; Customs_HS_Code: 85423100; Project: KHAN_MAIN; Library Ref: SN74LVC1G08DBVRE4_SOT23-5; RoHS: Sb/ Br FREE; Chkd/date: SUHAS/221010; Crtd /date: USMAN/151008; Datasheet: Y:\MIS_DATABASE\DATASHEETS\ICS\DIGITAL\GATES\SN74LVC1G08.PDF; Temperature: -40°C+85°C; Height: 1.45MM; Distributor_part_number: SN74LVC1G08DBVRE4-ND; Distributor_name: DIGIKEY; Package: SOT23-5; Mfr_part_number: SN74LVC1G08DBVRE4; PCB Footprint: SOT23-5
footprint SOT23-5
pins: 1 A (in), 2 B (in), 3 GND (power), 4 Y (out), 5 VCC (power)

## SN74LVC1G11DCKR_SC70-6
designator U?, comment SN74LVC1G11DCKR
IC SINGLE 3-INPUT POSITIVE-AND GATE SC70-6; Mistral Part No: 141009030230-R; Mfr_name: TEXAS INSTRUMENTS; Part_type: ICS\DIGITAL\GATES; Project: VOCERA; Customs_HS_Code: 85423100; Custom_Duty: 15%; Library Ref: SN74LVC1G11DCKR_SC70-6; Mfr_part_number: SN74LVC1G11DCKR; Package: SC70-6; Distributor_name: DIGIKEY; Distributor_part_number: 296-18066-1-ND; Height: 1.10MM; Datasheet: Y:\MIS_DATABASE\DATASHEETS\ICS\DIGITAL\GATES\SN74LVC1G.PDF; Crtd /date: MAZHAR/150506; Chkd/date: SHREESHAIL/220506; RoHS: Sb/ Br FREE; PCB Footprint: SC70-6
footprint SC70-6
pins: 1 A (in), 2 GND (power), 3 B (in), 4 Y (out), 5 VCC (power), 6 C (in)

## SN74LVC1G32DBVR_SOT23-5
designator U?, comment SN74LVC1G32DBVR
IC SINGAL 2 INPUT POSITIVE OR GATE SOT23-5; Mistral Part No: 141009030236-R; Mfr_name: TEXAS INSTRUMENTS; Part_type: ICS\DIGITAL\GATES; PCB Footprint: SOT23-5_1-5; Project: SVDO_RMB_MMA; Tolerance: NA; Customs_HS_Code: 85423100; Custom_Duty: 15%; Library Ref: SN74LVC1G32DBVR_SOT23-5; Mfr_part_number: SN74LVC1G32DBVR; Voltage: NA; Wattage: NA; Package: SOT23-5; Distributor_name: DIGIKEY; Distributor_part_number: 296-9847-1-ND; Height: 1.45MM; Weight: 6.3mg; Temperature: -40°C+85°C; Datasheet: Y:\MIS_DATABASE\DATASHEETS\ICS\DIGITAL\GATES\SN74LVC1G32.PDF; Crtd /date: MAZHAR/070806; Chkd/date: MANIRAJA/051017; MECHANICAL 3D STEP FILE: SOT23-5_1-5
footprint SOT23-5_1-5
pins: 1 A (in), 2 B (in), 3 GND (power), 4 Y (out), 5 VCC (power)

## SN74LVC2G157DCUR_VSSOP8
designator U?, comment SN74LVC2G157DCUR
IC 2-LINE TO 1-LINE DATA SELECTOR MULTIPLEXER VSSOP8; Part_type: ICS\DIGITAL\COMBINATIONAL; Mfr_name: TEXAS INSTRUMENTS; Mistral Part No: 141017090014-R; PCB Footprint: VSSOP8_19-68_85X95_0-9; Custom_Duty: 15%; Customs_HS_Code: 85423100; Wattage: NA; Project: TI_MAXIE_CPB; Library Ref: SN74LVC2G157DCUR_VSSOP8; MECHANICAL 3D STEP FILE: VSSOP8_19-68_85X95_0-9; Chkd/date: MANIRAJA/120917; Crtd /date: MANIRAJA/120917; Datasheet: Y:\MIS_DATABASE\DATASHEETS\ICS\DIGITAL\COMBINATIONAL\SN74LVC2G157.PDF; Temperature: -40°C+85°C; Weight: 9.6mg; Height: 0.90MM; Distributor_part_number: 296-12605-1-ND; Distributor_name: DIGIKEY; Package: VSSOP8; Voltage: NA; Tolerance: NA; Mfr_part_number: SN74LVC2G157DCUR
footprint VSSOP8_19-68_85X95_0-9
pins: 1 A, 2 B, 3 ~{Y}, 4 GND (power), 5 Y, 6 ~{A}/B, 7 ~{G}, 8 VCC (power)

## SN74LVC3G17DCUR_VSSOP8
designator U?, comment SN74LVC3G17DCUR
IC TRIPLE SCHMITT-TRIGGER BUFFER VSSOP8; Mistral Part No: 141017090019-R; Mfr_name: TEXAS INSTRUMENTS; Part_type: ICS\DIGITAL\COMBINATIONAL; Project: TI_MAXIE_CPB; Tolerance: NA; Customs_HS_Code: 85423100; Custom_Duty: 15%; MECHANICAL 3D STEP FILE: VSSOP8_19-68_85X95_0-9; Library Ref: SN74LVC3G17DCUR_VSSOP8; Mfr_part_number: SN74LVC3G17DCUR; Voltage: NA; Wattage: NA; Package: VSSOP8; Distributor_name: DIGIKEY; Distributor_part_number: 296-18818-1-ND; Height: 0.90MM; Weight: 9.6mg; Temperature: -40°C+125°C; Datasheet: Y:\MIS_DATABASE\DATASHEETS\ICS\DIGITAL\COMBINATIONAL\SN74LVC3G17.PDF; Crtd /date: MANIRAJA/280917; Chkd/date: MANIRAJA/280917; PCB Footprint: VSSOP8_19-68_85X95_0-9
footprint VSSOP8_19-68_85X95_0-9
pins: 1 1A (in), 2 3Y (out), 3 2A (in), 4 GND (power), 5 2Y (out), 6 3A (in), 7 1Y (out), 8 VCC (power)

## SW3_B12JV
designator SW?, comment ATE1D-6M3-10-Z
SWITCH TOGGLE SPDT RT TH; Mistral Part No: 130017120017-R; Mfr_name: NIDEC COPAL; Part_type: ELECTRO-MECHANICAL\SWITCH; PCB Footprint: SW3_ATE1F-6M3_370X710_TH_5-6; Project: TI_MAXIE_CPB; Tolerance: NA; Customs_HS_Code: 85369090; Custom_Duty: 24%; Library Ref: SW3_B12JV; Mfr_part_number: ATE1D-6M3-10-Z; Voltage: NA; Wattage: NA; Package: THRU-HOLE; Distributor_name: DIGIKEY; Distributor_part_number: 563-1759-ND; Height: 5.60MM; Weight: NA; Temperature: -20°C+85°C; Datasheet: Y:\MIS_DATABASE\DATASHEETS\MISC\SWITCHES\ATE-SER.PDF; Crtd /date: MANIRAJA/291217; Chkd/date: MANIRAJA/291217; MECHANICAL 3D STEP FILE: SW3_ATE1F-6M3_370X710_TH_5-6
footprint SW3_ATE1F-6M3_370X710_TH_5-6
pins: 1, 2, 3, SH1, SH2

## SW4_CHS-02TA
designator SW?, comment CHS-02TA_2PST
SWITCH SLIDE 2PST SMD; Mistral Part No: 130011120001-R; Mfr_name: COPAL ELECTRONICS; Part_type: ELECTRO-MECHANICAL\SWITCH; Project: AVCDP1; Tolerance: NA; Customs_HS_Code: 85369090; Custom_Duty: 24%; PCB Footprint: SW2_50x200_160x210_SMD; Library Ref: SW4_CHS-02TA; Mfr_part_number: CHS-02TA; Voltage: NA; Wattage: NA; Package: SMD; Distributor_name: DIGIKEY; Distributor_part_number: 563-1005-1-ND; Height: 2.50MM; Weight: 0.08g; Temperature: -40°C+85°C; Datasheet: Y:\MIS_DATABASE\DATASHEETS\MISC\SWITCHES\CHSSER.PDF; Crtd /date: CHAITHANYA/021211; Chkd/date: MAZHAR/021211
footprint SW2_50x200_160x210_SMD
pins: 1 A1, 2 A2, 3 B2, 4 B1

## SW4_SKHUPLE010
designator SW?, comment SKHMQLE010
SWITCH TACTILE SPST ST SMD; Mistral Part No: 130017100007-R; Mfr_name: ALPS; Part_type: ELECTRO-MECHANICAL\SWITCH; Project: TI_MAXIE_CPB; Tolerance: NA; Customs_HS_Code: 85369090; Custom_Duty: 24%; MECHANICAL 3D STEP FILE: SW4_SKHMQLE010_240X260_SMD_3-1; Library Ref: SW4_SKHUPLE010; Mfr_part_number: SKHMQLE010; Voltage: NA; Wattage: NA; Package: SMD; Distributor_name: MOUSER; Distributor_part_number: 688-SKHMQLE010; Height: 3.10MM; Weight: NA; Temperature: -30°C+85°C; Datasheet: Y:\MIS_DATABASE\DATASHEETS\MISC\SWITCHES\SKHMQLE010.PDF; Crtd /date: MANIRAJA/051017; Chkd/date: MANIRAJA/051017; PCB Footprint: SW4_SKHMQLE010_240X260_SMD_3-1
footprint SW4_SKHMQLE010_240X260_SMD_3-1
pins: 1, 2, 3, 4, 5 GND (power)

## SW10_218-10LPST
designator SW?, comment 218-10LPST
SWITCH DIP SPST HALF PITCH 10POS SMD; Part No (Manufacturer): GDH06S04 (Tyco Electronics); Mistral Part No: 130016080032-R; Mfr_name: CTS; Part_type: ELECTRO-MECHANICAL\SWITCH; Compliance: RoHS; Component Name: DIP Sw_GDH06S04; Project: EPOS_EVM; Tolerance: NA; Customs_HS_Code: 85369090; Custom_Duty: 24%; PCB Footprint: SW10_50_550X230_SMD; Operating Temp Range: -30 to 85C; Type: DIP; Library Ref: SW10_218-10LPST; Mfr_part_number: 218-10LPST; Voltage: NA; Wattage: NA; Package: SMD; Distributor_name: DIGIKEY; Distributor_part_number: CT21810LPST-ND; Height: 2.65MM; Weight: NA; Temperature: -55°C+85°C; Datasheet: Y:\MIS_DATABASE\DATASHEETS\MISC\SWITCHES\128-12LPST.PDF; Crtd /date: VASANTHA/250816; Chkd/date: VASANTHA/250816
footprint SW6_1P27_8p75x6p0_GDH
footprint SW10_50_550X230_SMD
pins: 1, 2, 3, 4, 5, 6, 7, 8, 9, 10, 11, 12, 13, 14, 15, 16, 17, 18, 19, 20
text: ON

## TCA6424ARGJR_QFN32
designator U?, comment TCA6424ARGJR
IC I2C I/O EXPANDER 24B UQFN32; Part_type: ICS\DIGITAL\BUSTRANSCEIVER; Mfr_name: TEXAS INSTRUMENTS; Mistral Part No: 141014090009-R; Custom_Duty: 15%; Customs_HS_Code: 85423100; Project: ZK_BIOMETRIC; PCB Footprint: QFN32_19-68_200X200; Library Ref: TCA6424ARGJR_QFN32; Chkd/date: NAVEED/100715; Crtd /date: NAVEED/100914; Datasheet: Y:\MIS_DATABASE\DATASHEETS\ICS\DIGITAL\BUSTRANSCEIVER\TCA6424AR.PDF; Temperature: -40°C+85°C; Weight: NA; Height: 0.60MM; Distributor_part_number: 296-27844-1-ND; Distributor_name: DIGIKEY; Package: UQFN32; Mfr_part_number: TCA6424ARGJR
footprint QFN32_19-68_200X200
pins: 1 P00 (io), 2 P01 (io), 3 P02 (io), 4 P03 (io), 5 P04 (io), 6 P05 (io), 7 P06 (io), 8 P07 (io), 9 P10 (io), 10 P11 (io), 11 P12 (io), 12 P13 (io), 13 P14 (io), 14 P15 (io), 15 P16 (io), 16 P17 (io), 17 P20 (io), 18 P21 (io), 19 P22 (io), 20 P23 (io), 21 P24 (io), 22 P25 (io), 23 P26 (io), 24 P27 (io), 25 GND (power), 26 ADDR (io), 27 VCCP (power), 28 ~{RESET} (in), 29 SCL (in), 30 SDA (io), 31 VCC (power), 32 ~{INT} (in), 33 EP (power)

## TCA9554APWR_TSSOP16
designator U?, comment TCA9554APWR
IC 8-BIT I2C AND SMBUS I/O EXPANDER WITH INTERRUPT O/P TSSOP16; Mistral Part No: 141017090007-R; Mfr_name: TEXAS INSTRUMENTS; Part_type: ICS\DIGITAL\BUSTRANSCEIVER; Project: TI_MAXIE_CPB; Tolerance: NA; Customs_HS_Code: 85423100; Custom_Duty: 15%; MECHANICAL 3D STEP FILE: TSSOP16_25-59_205X180_1-2; Library Ref: TCA9554APWR_TSSOP16; Mfr_part_number: TCA9554APWR; Voltage: NA; Wattage: NA; Package: TSSOP16; Distributor_name: DIGIKEY; Distributor_part_number: 296-28120-1-ND; Height: 1.20MM; Weight: 173mg; Temperature: -40°C+85°C; Datasheet: Y:\MIS_DATABASE\DATASHEETS\ICS\DIGITAL\BUSTRANSCEIVER\TCA9554.PDF; Crtd /date: MANIRAJA/110917; Chkd/date: MANIRAJA/110917; PCB Footprint: TSSOP16_25-59_205X180_1-2
footprint TSSOP16_25-59_205X180_1-2
pins: 1 A0 (in), 2 A1 (in), 3 A2 (in), 4 P0 (io), 5 P1 (io), 6 P2 (io), 7 P3 (io), 8 GND (power), 9 P4 (io), 10 P5 (io), 11 P6 (io), 12 P7 (io), 13 ~{INT} (out), 14 SCL (in), 15 SDA (hiz), 16 VCC (power)

## TCA9555RTWR_WQFN24
designator U?, comment TCA9555RTWR
IC I/O EXPANDER I2C BUS 16-BIT WQFN24; Part_type: ICS\DIGITAL\BUSTRANSCEIVER; Mfr_name: TEXAS INSTRUMENTS; Mistral Part No: 141013080010-R; Wattage: NA; Project: RTM; PCB Footprint: QFN24_19-68_165X165; Chkd/date: USMAN/120913; Crtd /date: VIJAYALAKSHMI/200813; Datasheet: Y:\MIS_DATABASE\DATASHEETS\ICS\DIGITAL\BUSTRANSCEIVER\TCA9555X.PDF; Temperature: -40°C+85°C; Weight: NA; Height: 0.80MM; Distributor_part_number: 296-24857-1-ND; Distributor_name: DIGIKEY; Package: WQFN24; Voltage: NA; Tolerance: NA; Mfr_part_number: TCA9555RTWR; Library Ref: TCA9555RTWR_WQFN24
footprint QFN24_19-68_165X165
pins: 1 P00 (io), 2 P01 (io), 3 P02 (io), 4 P03 (io), 5 P04 (io), 6 P05 (io), 7 P06 (io), 8 P07 (io), 9 GND (power), 10 P10 (io), 11 P11 (io), 12 P12 (io), 13 P13 (io), 14 P14 (io), 15 P15 (io), 16 P16 (io), 17 P17 (io), 18 A0 (in), 19 SCL (in), 20 SDA (io), 21 VCC (power), 22 ~{INT} (out), 23 A1 (in), 24 A2 (in), 25 PAD (power)

## TESTPOINT
designator TP?, comment TP40_SMD  (value not drawn)
TESTPOINT CIR 40 SMD; Mfr_name: LOCAL; Mistral Part No: 130009030933; Project: RAINIER-3; Tolerance: NA; Chkd/date: MAZHAR/190505; Crtd /date: MAZHAR/190505; Height: NA; Distributor_part_number: NA; Distributor_name: NA; Package: SMD; Part_type: TESTPOINT; Mfr_part_number: TP40_SMD; Voltage: NA; Wattage: NA; Weight: NA; Temperature: NA; Datasheet: NA; MECHANICAL 3D STEP FILE: NA; Library Path: Y:\MIS_DATABASE\Library\ALTIUM_TOOL\SCHEMATICS_PARTS\MS_DISCRETE_Library.schlib; Footprint Path: Y:\MIS_DATABASE\Library\ALTIUM_TOOL\PCB_FOOTPRINTS\Altium_Footprint_Lib.PcbLib; Library Ref: TESTPOINT; Footprint Ref: TP40_SMD; RoHS: NA; PCB Footprint: TP40_SMD
footprint TP40_SMD
pins: 1 TP

## TESTPOINT_1
designator TP?, comment THRU HOLE
TESTPOINT 1.0MM DRILL PTH; Part_type: MISC\TESTPOINT; Mfr_name: LOCAL; Mistral Part No: 130009030938; PCB Footprint: TP_40X65; Project: HSE; Chkd/date: MAZHAR/271211; Crtd /date: SHREESHAIL/041005; Datasheet: NA; Height: NA; Distributor_part_number: NA; Distributor_name: NA; Package: THRU-HOLE; Mfr_part_number: TP_40X65; Library Ref: TESTPOINT
footprint TP_40X65
pins: 1 TP

## TESTPOINT_2
designator TP?, comment 5002
ACCESSORIE PC TEST POINT; Mistral Part No: 160016120008-R; Mfr_name: KEYSTONE; Part_type: ACCESSORIES; Project: EPOS_EVM; Tolerance: NA; MECHANICAL 3D STEP FILE: TP_CIR67D40_TH_4-6; Mfr_part_number: 5002; Voltage: NA; Wattage: NA; Package: NA; Distributor_name: DIGIKEY; Distributor_part_number: 36-5002-ND; Library Ref: TESTPOINT; Height: 4.57MM; Weight: NA; Temperature: NA; Datasheet: Y:\MIS_DATABASE\DATASHEETS\MISC\ACCESSORIES\5002.PDF; Crtd /date: MANIRAJA/121216; Chkd/date: VASANTHA/121216; PCB Footprint: TP_CIR67D40_TH_4-6
footprint TP_CIR67D40_TH_4-6
pins: 1 TP

## TI_Logo
designator Logo?, comment CE Mark
PCB Footprint: TI_Stacked_Overlay_Small
footprint TI_Stacked_Overlay_Small
text: PCB; LOGO

## TI_Logo_Dup1
designator Logo?, comment WEEE Mark
footprint TI_Stacked_Overlay_Small
text: PCB; LOGO

## TI_Logo_Dup1_1
designator Logo?, comment Texas Intruments
footprint TI_Stacked_Overlay_Small
text: PCB; LOGO

## TLV71318PDQNR_X2SON4
designator U?, comment TLV70718DQNR
IC 200mA LOW IQ LOW NOISE LDO REGULATOR X2SON-4; Part_type: ICS\POWER\VOLTAGE REGULATOR; Mfr_name: TEXAS INSTRUMENTS; Mistral Part No: 142018020038-R; MECHANICAL 3D STEP FILE: X2SON4_TLV71318P_40X40_0-4; Custom_Duty: 15%; Customs_HS_Code: 85423100; Wattage: NA; Project: TI_MAXIE_CPB; Footprint Path: Y:\MIS_DATABASE\Library\ALTIUM_TOOL\PCB_FOOTPRINTS\Altium_Footprint_Lib.PcbLib; Library Path: Y:\MIS_DATABASE\Library\ALTIUM_TOOL\SCHEMATICS_PARTS\MS_MISCPOWER_Library.schlib; Chkd/date: MANIRAJA/270218; Crtd /date: ALVY/260218; Datasheet: Y:\MIS_DATABASE\DATASHEETS\ICS\POWER\TLV707X.PDF; Temperature: -40°C+125°C; Weight: 1.5mg; Height: 0.40MM; Footprint Ref: X2SON4_TLV71318P_40X40_0-4; Library Ref: TLV71318PDQNR_X2SON4; Distributor_part_number: 296-36768-1-ND; Distributor_name: DIGIKEY; Package: X2SON-4; Voltage: NA; Tolerance: NA; Mfr_part_number: TLV70718DQNR; PCB Footprint: X2SON4_TLV71318P_40X40_0-4
footprint X2SON4_TLV71318P_40X40_0-4
pins: 1 OUT (out), 2 GND (power), 3 EN, 4 IN (in), 5 EP (power)

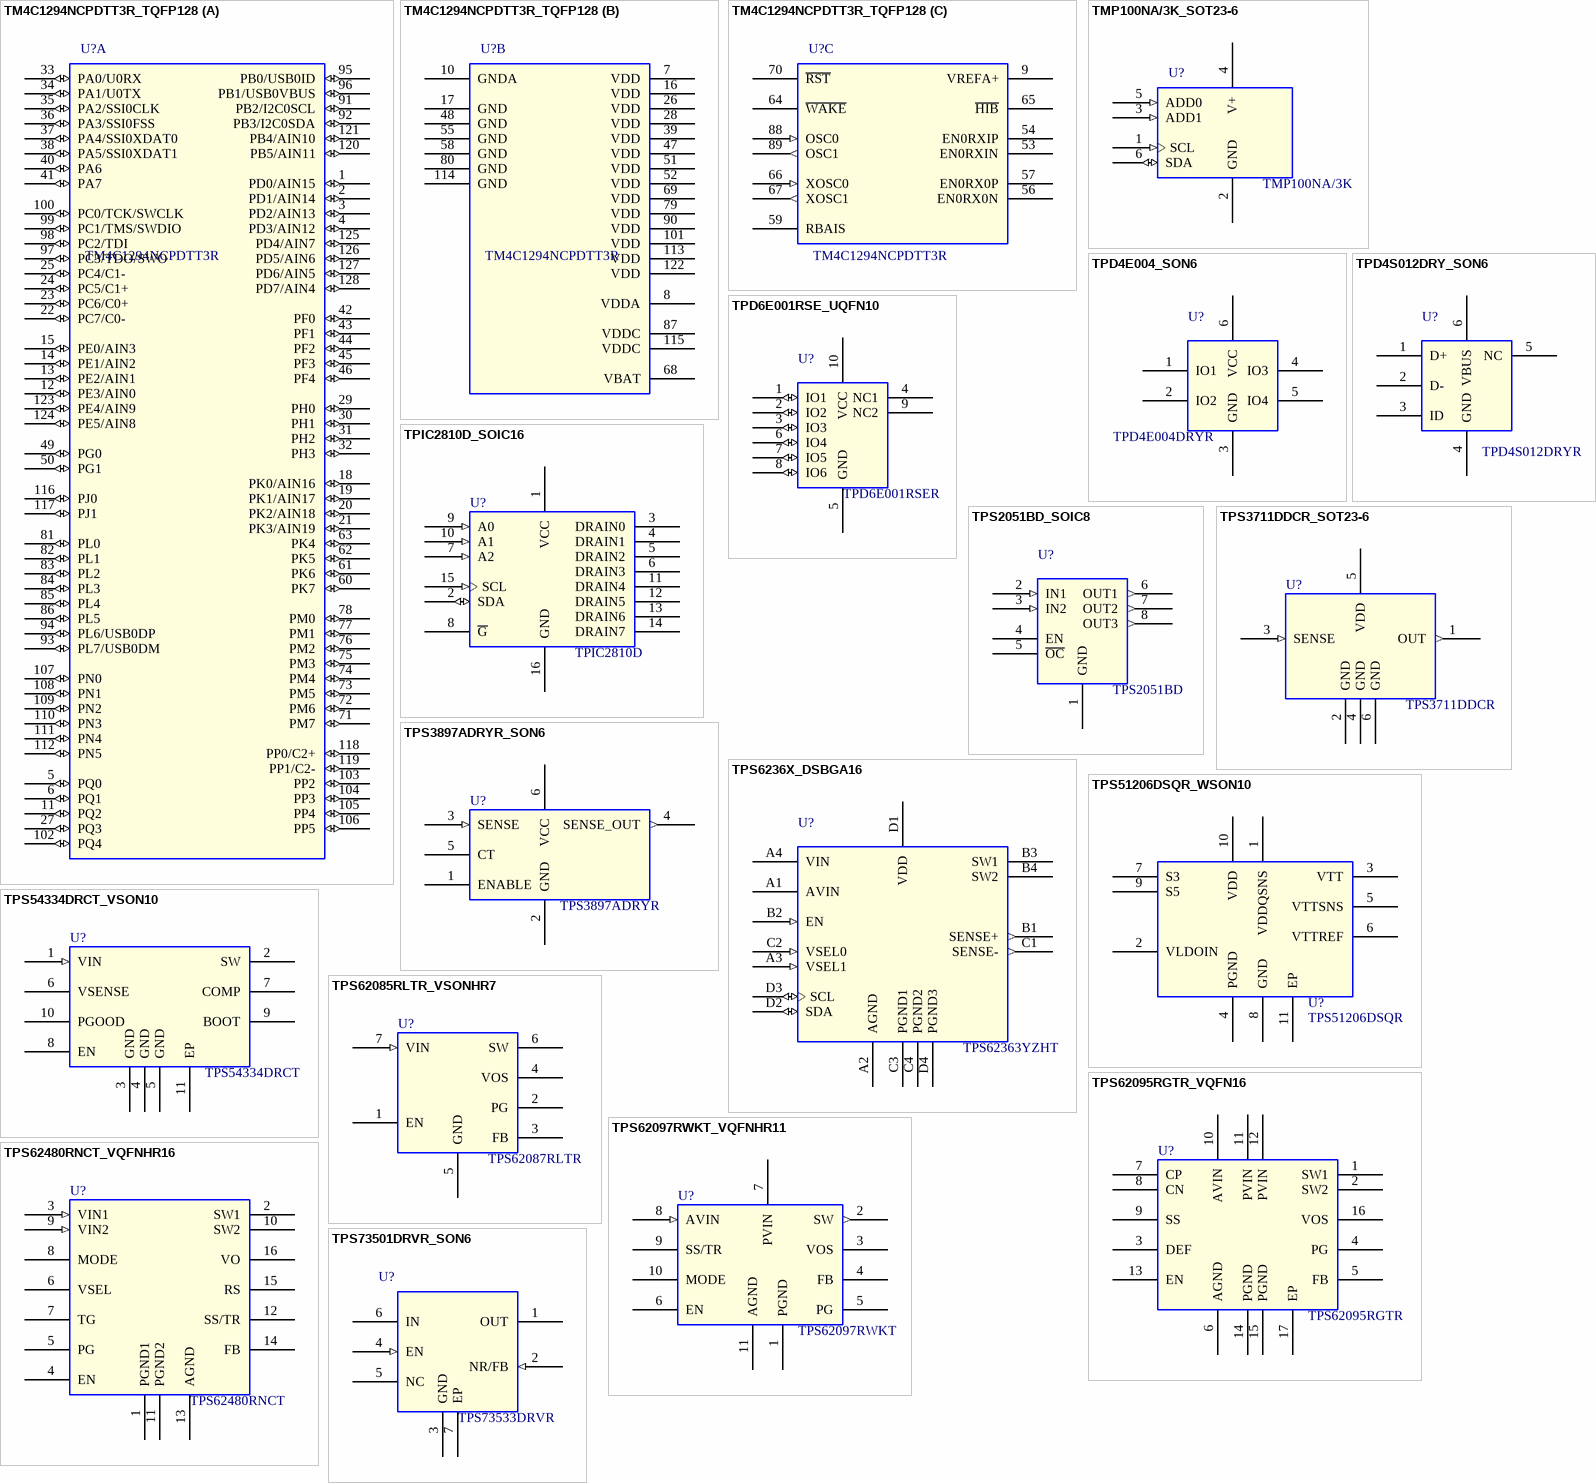
[diagram p19: symbols TM4C1294NCPDTT3R_TQFP128 to TPS73501DRVR_SON6]

## TM4C1294NCPDTT3R_TQFP128
designator U?, comment TM4C1294NCPDTT3R
IC 32-BIT MICROCONTROLLER WITH 1MB FLASH TQFP128; Part_type: ICS\DIGITAL\MICROCONTROLLER; Mfr_name: TEXAS INSTRUMENTS; Mistral Part No: 141217080002-R; PCB Footprint: TQFP128_15-74_550X550_1-2; Custom_Duty: 15%; Customs_HS_Code: 85423100; Wattage: NA; Project: TI_MAXIE_CPB; MECHANICAL 3D STEP FILE: TQFP128_15-74_550X550_1-2; Chkd/date: MANIRAJA/220817; Crtd /date: MANIRAJA/220817; Datasheet: Y:\MIS_DATABASE\DATASHEETS\ICS\DIGITAL\MICROCONTROLLER\TM4C1294NCPD.PDF; Temperature: -40°C+105°C; Weight: 503.5mg; Height: 1.20MM; Distributor_part_number: TM4C1294NCPDTT3R-ND; Distributor_name: DIGIKEY; Package: TQF9128; Voltage: NA; Tolerance: NA; Mfr_part_number: TM4C1294NCPDTT3R; Library Ref: TM4C1294NCPDTT3R_TQFP128
footprint TQFP128_15-74_550X550_1-2
part A pins: 1 PD0/AIN15 (io), 2 PD1/AIN14 (io), 3 PD2/AIN13 (io), 4 PD3/AIN12 (io), 5 PQ0 (io), 6 PQ1 (io), 11 PQ2 (io), 12 PE3/AIN0 (io), 13 PE2/AIN1 (io), 14 PE1/AIN2 (io), 15 PE0/AIN3 (io), 18 PK0/AIN16 (io), 19 PK1/AIN17 (io), 20 PK2/AIN18 (io), 21 PK3/AIN19 (io), 22 PC7/C0- (io), 23 PC6/C0+ (io), 24 PC5/C1+ (io), 25 PC4/C1- (io), 27 PQ3 (io), 29 PH0 (io), 30 PH1 (io), 31 PH2 (io), 32 PH3 (io), 33 PA0/U0RX (io), 34 PA1/U0TX (io), 35 PA2/SSI0CLK (io), 36 PA3/SSI0FSS (io), 37 PA4/SSI0XDAT0 (io), 38 PA5/SSI0XDAT1 (io), 40 PA6 (io), 41 PA7 (io), 42 PF0 (io), 43 PF1 (io), 44 PF2 (io), 45 PF3 (io), 46 PF4 (io), 49 PG0 (io), 50 PG1 (io), 60 PK7 (io), 61 PK6 (io), 62 PK5 (io), 63 PK4 (io), 71 PM7 (io), 72 PM6 (io), 73 PM5 (io), 74 PM4 (io), 75 PM3 (io), 76 PM2 (io), 77 PM1 (io), 78 PM0 (io), 81 PL0 (io), 82 PL1 (io), 83 PL2 (io), 84 PL3 (io), 85 PL4 (io), 86 PL5 (io), 91 PB2/I2C0SCL (io), 92 PB3/I2C0SDA (io), 93 PL7/USB0DM (io), 94 PL6/USB0DP (io), 95 PB0/USB0ID (io), 96 PB1/USB0VBUS (io), 97 PC3/TDO/SWO (io), 98 PC2/TDI (io), 99 PC1/TMS/SWDIO (io), 100 PC0/TCK/SWCLK (io), 102 PQ4 (io), 103 PP2 (io), 104 PP3 (io), 105 PP4 (io), 106 PP5 (io), 107 PN0 (io), 108 PN1 (io), 109 PN2 (io), 110 PN3 (io), 111 PN4 (io), 112 PN5 (io), 116 PJ0 (io), 117 PJ1 (io), 118 PP0/C2+ (io), 119 PP1/C2- (io), 120 PB5/AIN11 (io), 121 PB4/AIN10 (io), 123 PE4/AIN9 (io), 124 PE5/AIN8 (io), 125 PD4/AIN7 (io), 126 PD5/AIN6 (io), 127 PD6/AIN5 (io), 128 PD7/AIN4 (io)
part B pins: 7 VDD (power), 8 VDDA (power), 10 GNDA (power), 16 VDD (power), 17 GND (power), 26 VDD (power), 28 VDD (power), 39 VDD (power), 47 VDD (power), 48 GND (power), 51 VDD (power), 52 VDD (power), 55 GND (power), 58 GND (power), 68 VBAT (power), 69 VDD (power), 79 VDD (power), 80 GND (power), 87 VDDC (power), 90 VDD (power), 101 VDD (power), 113 VDD (power), 114 GND (power), 115 VDDC (power), 122 VDD (power)
part C pins: 9 VREFA+, 53 EN0RXIN, 54 EN0RXIP, 56 EN0RX0N, 57 EN0RX0P, 59 RBAIS, 64 ~{WAKE}, 65 ~{HIB}, 66 XOSC0 (in), 67 XOSC1 (out), 70 ~{RST}, 88 OSC0 (in), 89 OSC1 (out)

## TMP100NA/3K_SOT23-6
designator U?, comment TMP100NA/3K
IC TEMPERATURE SENSOR WITH I2C AND SMBUS INTERFACE SOT23-6; Part_type: ICS\DIGITAL\PERIPHERAL; Mfr_name: TEXAS INSTRUMENTS; Mistral Part No: 141017080030-R; MECHANICAL 3D STEP FILE: SOT23-6_1-5; Custom_Duty: 15%; Customs_HS_Code: 85423100; Wattage: NA; Project: TI_MAXIE_CPB; Library Ref: TMP100NA/3K_SOT23-6; Chkd/date: MANIRAJA/290817; Crtd /date: MANIRAJA/290817; Datasheet: Y:\MIS_DATABASE\DATASHEETS\ICS\DIGITAL\PERIPHERAL\TMP10XX.PDF; Temperature: -55°C+125°C; Weight: 120mg; Height: 1.45MM; Distributor_part_number: 296-26833-1-ND; Distributor_name: DIGIKEY; Package: SOT23-6; Voltage: NA; Tolerance: NA; Mfr_part_number: TMP100NA/3K; PCB Footprint: SOT23-6_1-5
footprint SOT23-6_1-5
pins: 1 SCL (in), 2 GND (power), 3 ADD1 (in), 4 V+ (power), 5 ADD0 (in), 6 SDA (io)

## TPD4E004_SON6
designator U?, comment TPD4E004DRYR
IC 4CH ESD-PROT ARRAY SON6; Mistral Part No: 141010020012-P; Mfr_name: TEXAS INSTRUMENTS; Part_type: ICS\INTERFACE; Project: BUG_BASE-II; Customs_HS_Code: 85423100; Custom_Duty: 15%; PCB Footprint: SON6_19-68_60X45; Library Ref: TPD4E004_SON6; Mfr_part_number: TPD4E004DRYR; Package: SON6; Distributor_name: DIGIKEY; Distributor_part_number: 296-23618-1-ND; Height: 0.60MM; Weight: NA; Temperature: -40°C+85°C; Datasheet: Y:\MIS_DATABASE\DATASHEETS\ICS\INTERFACE\TPD4E004.PDF; Crtd /date: MUDDU/010310; Chkd/date: SUHAS/131210; RoHS: Pb-Free
footprint SON6_19-68_60X45
pins: 1 IO1, 2 IO2, 3 GND (power), 4 IO3, 5 IO4, 6 VCC (power)

## TPD4S012DRY_SON6
designator U?, comment TPD4S012DRYR
IC 4CH ESD SOLUTION SON6; Part_type: ICS\INTERFACE; Mfr_name: TEXAS INSTRUMENTS; Mistral Part No: 141011080022-R; MECHANICAL 3D STEP FILE: SON6_19-68_40X60_PB_0-6; Custom_Duty: 15%; Customs_HS_Code: 85423100; Wattage: NA; Project: ACRO_DM3730; Chkd/date: VASANTHA/060117; Crtd /date: BAVISH/190811; Datasheet: Y:\MIS_DATABASE\DATASHEETS\ICS\INTERFACE\TPD4S012.PDF; Temperature: -40°C+85°C; Weight: NA; Height: 0.60MM; Distributor_part_number: 296-24244-1-ND; Distributor_name: DIGIKEY; Package: SON6; Voltage: NA; Tolerance: NA; Mfr_part_number: TPD4S012DRYR; PCB Footprint: SON6_19-68_40X60_PB_0-6; Library Ref: TPD4S012DRY_SON6
footprint SON6_19-68_40X60_PB_0-6
pins: 1 D+, 2 D-, 3 ID, 4 GND (power), 5 NC, 6 VBUS (power)

## TPD6E001RSE_UQFN10
designator U?, comment TPD6E001RSER
IC 6CH ESD-PROTECTION ARRAY UQFN10; Mistral Part No: 141011080020-R; Mfr_name: TEXAS INSTRUMENTS; Part_type: ICS\INTERFACE; Project: DM385EVM_BASE-BOARD; Tolerance: NA; Customs_HS_Code: 85423100; Custom_Duty: 15%; MECHANICAL 3D STEP FILE: UQFN10_19-68_80X60_0-6; IBISSP_MODLES: Y:\MIS_DATABASE\IBIS\ICs\INTERFACE\TPD6E001RSE.IBS; Footprint Path: Y:\MIS_DATABASE\Library\ALTIUM_TOOL\PCB_FOOTPRINTS\Altium_Footprint_Lib.PcbLib; Library Path: Y:\MIS_DATABASE\Library\ALTIUM_TOOL\SCHEMATICS_PARTS\MS_MISCINTERFACE_Library.schlib; Footprint Ref: UQFN10_19-68_80X60_0-6; Library Ref: TPD6E001RSE_UQFN10; Mfr_part_number: TPD6E001RSER; Voltage: NA; Wattage: NA; Package: UQFN10; Distributor_name: DIGIKEY; Distributor_part_number: 296-21888-1-ND; Height: 0.60MM; Weight: 7mg; Temperature: -40°C+85°C; Datasheet: Y:\MIS_DATABASE\DATASHEETS\ICS\INTERFACE\TPD6E001.PDF; Crtd /date: BAVISH/160811; Chkd/date: USMAN/070612; PCB Footprint: UQFN10_19-68_80X60_0-6
footprint UQFN10_19-68_80X60_0-6
pins: 1 IO1 (io), 2 IO2 (io), 3 IO3 (io), 4 NC1, 5 GND (power), 6 IO4 (io), 7 IO5 (io), 8 IO6 (io), 9 NC2, 10 VCC (power)

## TPIC2810D_SOIC16
designator U?, comment TPIC2810D
IC 8-BIT LED DRIVER WITH I2C INTERFACE SOIC16; Mistral Part No: 141017080026-R; Mfr_name: TEXAS INSTRUMENTS; Part_type: ICS\INTERFACE; Project: TI_MAXIE_CPB; Tolerance: NA; Customs_HS_Code: 85423100; Custom_Duty: 15%; MECHANICAL 3D STEP FILE: SOIC16_1-8; Mfr_part_number: TPIC2810D; Voltage: NA; Wattage: NA; Package: SOIC16; Distributor_name: DIGIKEY; Distributor_part_number: 296-13746-5-ND; Height: 1.75MM; Weight: NA; Temperature: -40°C+125°C; Datasheet: Y:\MIS_DATABASE\DATASHEETS\ICS\INTERFACE\TPIC2810D.PDF; Crtd /date: MANIRAJA/220817; Chkd/date: MANIRAJA/230817; PCB Footprint: SOIC16_1-8; Library Ref: TPIC2810D_SOIC16
footprint SOIC16_1-8
pins: 1 VCC (power), 2 SDA (io), 3 DRAIN0, 4 DRAIN1, 5 DRAIN2, 6 DRAIN3, 7 A2 (in), 8 ~{G}, 9 A0 (in), 10 A1 (in), 11 DRAIN4, 12 DRAIN5, 13 DRAIN6, 14 DRAIN7, 15 SCL (in), 16 GND (power)

## TPS2051BD_SOIC8
designator U?, comment TPS2051BD
IC POWER DISTRIBUTION SWITCH SOIC8; Mistral Part No: 142014060011-R; Mfr_name: TEXAS INSTRUMENTS; Part_type: ICS\POWER; PCB Footprint: SOIC8_1-8; Project: AEGIS_POM; Tolerance: NA; Customs_HS_Code: 85423100; Custom_Duty: 15%; Footprint Path: Y:\MIS_DATABASE\Library\ALTIUM_TOOL\PCB_FOOTPRINTS\Altium_Footprint_Lib.PcbLib; Library Path: Y:\MIS_DATABASE\Library\ALTIUM_TOOL\SCHEMATICS_PARTS\MS_MISCPOWER_Library.schlib; MECHANICAL 3D STEP FILE: SOIC8_1-8; Footprint Ref: SOIC8_1-8; Library Ref: TPS2051BD_SOIC8; Mfr_part_number: TPS2051BD; Voltage: NA; Wattage: NA; Package: SOIC8; Distributor_name: DIGIKEY; Distributor_part_number: 296-26911-5-ND; Height: 1.75MM; Weight: 72.6mg; Temperature: -40°C+125°C; Datasheet: Y:\MIS_DATABASE\DATASHEETS\MISC\REGULATORS\TPS2051BDBVR.PDF; Crtd /date: VASANTHA/190614; Chkd/date: NAVEED/150714
footprint SOIC8_1-8
pins: 1 GND (power), 2 IN1 (in), 3 IN2 (in), 4 EN, 5 ~{OC}, 6 OUT1 (out), 7 OUT2 (out), 8 OUT3 (out)

## TPS3711DDCR_SOT23-6
designator U?, comment TPS3711DDCR
IC 36V VOLTAGE DETECTOR SOT23-6; Part_type: ICS\POWER\MANAGEMENT; Mfr_name: TEXAS INSTRUMENTS; Mistral Part No: 142017100008-R; PCB Footprint: SOT23-6_1-1; Custom_Duty: 15%; Customs_HS_Code: 85423100; Wattage: NA; Project: TI_MAXIE_CPB; Library Ref: TPS3711DDCR_SOT23-6; MECHANICAL 3D STEP FILE: SOT23-6_1-1; Chkd/date: MANIRAJA/091017; Crtd /date: MANIRAJA/091017; Datasheet: Y:\MIS_DATABASE\DATASHEETS\ICS\POWER\TPS3711D.PDF; Temperature: -40°C+125°C; Weight: 30mg; Height: 1.10MM; Distributor_part_number: 296-43278-1-ND; Distributor_name: DIGIKEY; Package: SOT23-6; Voltage: NA; Tolerance: NA; Mfr_part_number: TPS3711DDCR
footprint SOT23-6_1-1
pins: 1 OUT (out), 2 GND (power), 3 SENSE (in), 4 GND (power), 5 VDD (power), 6 GND (power)

## TPS3897ADRYR_SON6
designator U?, comment TPS3897ADRYR
IC 1-CH ADJ VOLTAGE MONITOR SON6; Mistral Part No: 142017100007-R; Mfr_name: TEXAS INSTRUMENTS; Part_type: ICS\POWER\MANAGEMENT; PCB Footprint: SON6_19-68_40X60_0-6; Project: TI_MAXIE_CPB; Tolerance: NA; Customs_HS_Code: 85423100; Custom_Duty: 15%; Library Ref: TPS3897ADRYR_SON6; Mfr_part_number: TPS3897ADRYR; Voltage: NA; Wattage: NA; Package: SON6; Distributor_name: DIGIKEY; Distributor_part_number: 296-29810-1-ND; Height: 0.60MM; Weight: NA; Temperature: -40°C+125°C; Datasheet: Y:\MIS_DATABASE\DATASHEETS\ICS\POWER\TPS389X.PDF; Crtd /date: MANIRAJA/091017; Chkd/date: MANIRAJA/091017; MECHANICAL 3D STEP FILE: SON6_19-68_40X60_0-6
footprint SON6_19-68_40X60_0-6
pins: 1 ENABLE, 2 GND (power), 3 SENSE (in), 4 SENSE_OUT (out), 5 CT, 6 VCC (power)

## TPS6236X_DSBGA16
designator U?, comment TPS62363YZHT
IC 3A PROCESSOR SUPPLY WITH I2C INTERFACE DSBGA16; Part_type: ICS\POWER\DC-DC CONVERTER; Mfr_name: TEXAS INSTRUMENTS; Mistral Part No: 142017100016-R; MECHANICAL 3D STEP FILE: DSBGA16_19-68_80X80_0-7; Custom_Duty: 15%; Customs_HS_Code: 85423100; Wattage: NA; Project: TI_MAXIE_CPB; Chkd/date: MANIRAJA/261017; Crtd /date: MANIRAJA/261017; Datasheet: Y:\MIS_DATABASE\DATASHEETS\ICS\POWER\TPS6236XX.PDF; Temperature: -40°C+85°C; Weight: NA; Height: 0.63MM; Distributor_part_number: 296-30361-1-ND; Distributor_name: DIGIKEY; Package: DSBGA16; Voltage: NA; Tolerance: NA; Mfr_part_number: TPS62363YZHT; PCB Footprint: DSBGA16_19-68_80X80_0-7; Library Ref: TPS6236X_DSBGA16
footprint DSBGA16_19-68_80X80_0-7
pins: A1 AVIN (power), A2 AGND (power), A3 VSEL1 (in), A4 VIN (power), B1 SENSE+ (out), B2 EN (in), B3 SW1, B4 SW2, C1 SENSE- (out), C2 VSEL0 (in), C3 PGND1 (power), C4 PGND2 (power), D1 VDD (power), D2 SDA (io), D3 SCL (io), D4 PGND3 (power)